# EAGLE library part ZN1040 (library ZN1040E)
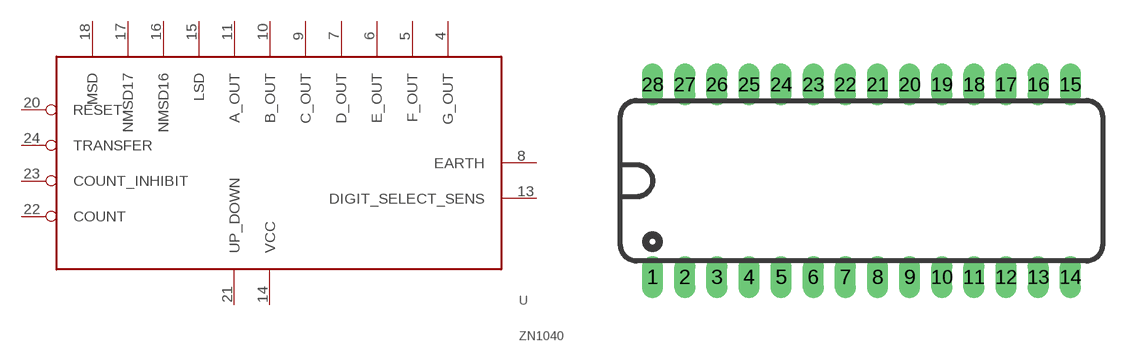
[diagram p0: symbol with the pads of ZN1040; footprint ZN1040]

Designator prefix -

## ZN1040  [ZN1040]
4  G_OUT  out
5  F_OUT  out
6  E_OUT  out
7  D_OUT  out
8  EARTH  pwr
9  C_OUT  out
10  B_OUT  out
11  A_OUT  out
13  DIGIT_SELECT_SENS  in
14  VCC  pwr
15  LSD  out
16  NMSD16  out
17  NMSD17  out
18  MSD  out
20  RESET  pwr
21  UP_DOWN  in
22  COUNT  pwr
23  COUNT_INHIBIT  pwr
24  TRANSFER  pwr

## Footprint ZN1040 (pad centres in mm)
drill 0.8 pad 1.676 long: 1 -16.51,-5.08; 2 -13.97,-5.08; 3 -11.43,-5.08; 4 -8.89,-5.08; 5 -6.35,-5.08; 6 -3.81,-5.08; 7 -1.27,-5.08; 8 1.27,-5.08; 9 3.81,-5.08; 10 6.35,-5.08; 11 8.89,-5.08; 12 11.43,-5.08; 13 13.97,-5.08; 14 16.51,-5.08; 15 16.51,10.16; 16 13.97,10.16; 17 11.43,10.16; 18 8.89,10.16; 19 6.35,10.16; 20 3.81,10.16; 21 1.27,10.16; 22 -1.27,10.16; 23 -3.81,10.16; 24 -6.35,10.16; 25 -8.89,10.16; 26 -11.43,10.16; 27 -13.97,10.16; 28 -16.51,10.16